# Altium schematic symbol library SCH - CONNECTORS - 2X2 PIN.SCHLIB: 1 symbol
Pins are listed as number, name and electrical type; pins without a type are passive.

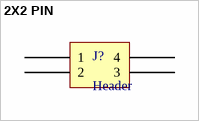
[diagram p0: symbol 2X2 PIN]

## 2X2 PIN
designator J?, comment Header
pins: 1, 2, 3, 4